# Altium footprint library CONN-TH_MTE210-16RL.PcbLib: 1 footprints
Each footprint in its own frame and in the unit in brackets; x right, y up, seen from the top. Pads: shape width x height; smd on the part's side, far side on the other; paste and mask are expansions set on the pad; w line width, h text height; cw(c..) or ccw(c..) is an arc to the next point about the centre after c.
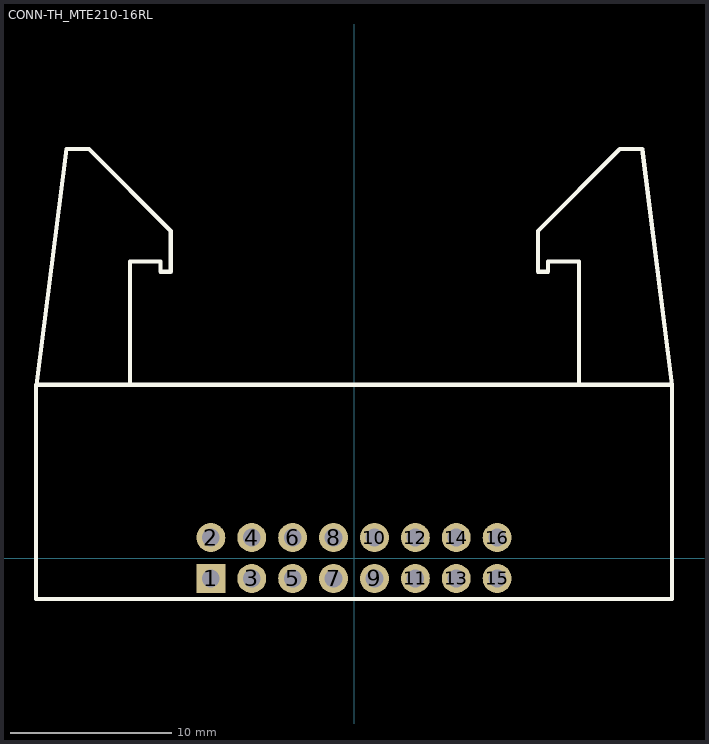
[diagram p0: the footprint, top view; thin cyan lines are the x and y axes]

## CONN-TH_MTE210-16RL [mm]
pads (16):
  rect 1.8x1.8 hole 1.1: 1(-8.89,-1.27)
  round 1.8 hole 1.1: 2(-8.89,1.27) 3(-6.35,-1.27) 4(-6.35,1.27) 5(-3.81,-1.27) 6(-3.81,1.27) 7(-1.27,-1.27) 8(-1.27,1.27) 9(1.27,-1.27) 10(1.27,1.27) 11(3.81,-1.27) 12(3.81,1.27) 13(6.35,-1.27) 14(6.35,1.27) 15(8.89,-1.27) 16(8.89,1.27)
Top Overlay:
  lines w0.254: -19.71,10.76 -17.857,25.4 -16.46,25.4 -11.38,20.32 -11.38,17.78 -12.015,17.78 -12.015,18.415 -13.92,18.415 -13.918,10.76 ; 13.961,10.76 13.963,18.415 12.058,18.415 12.058,17.78 11.423,17.78 11.423,20.32 16.503,25.4 17.9,25.4 19.753,10.76 19.753,-2.54 ; 19.76,-2.54 -19.76,-2.54 -19.76,10.76 19.76,10.76